# Altium schematic symbol library ECET231_ProjectThree_SCHLIB_Rev02.SCHLIB: 19 symbols
Pins are listed as number, name and electrical type; pins without a type are passive.

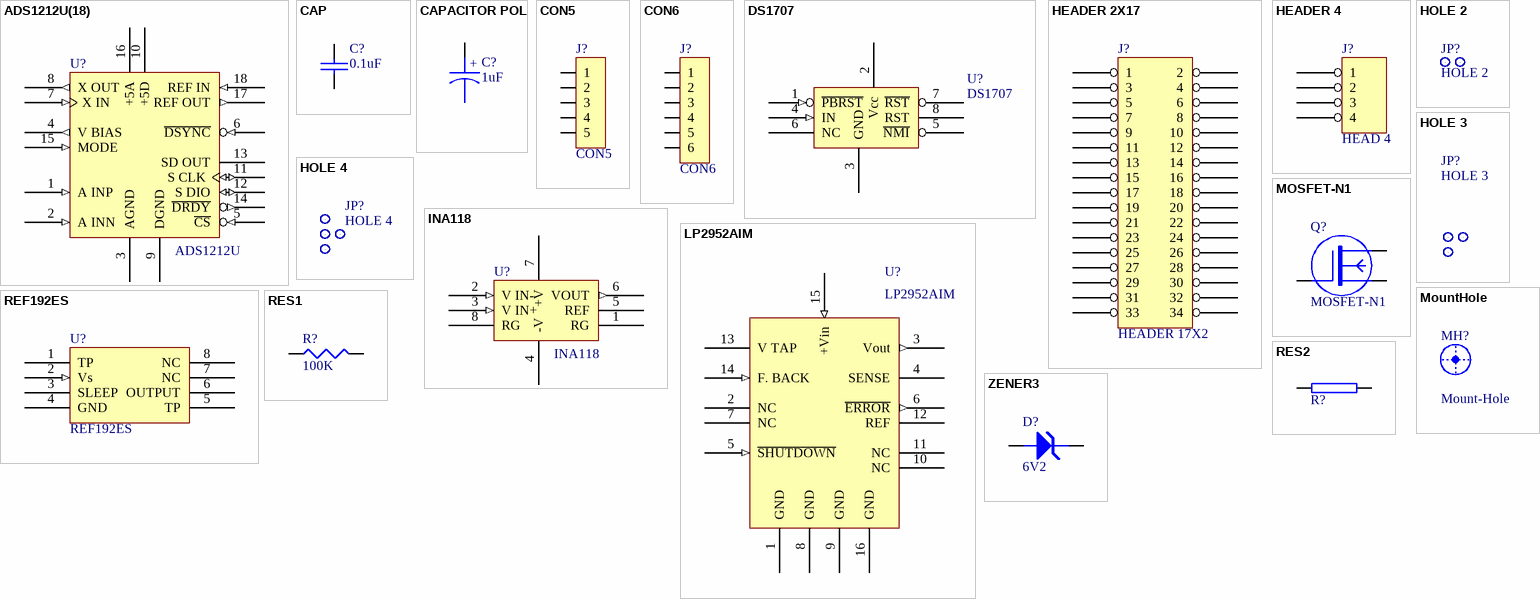
[diagram p0: symbols ADS1212U(18) to ZENER3]

## ADS1212U(18)
designator U?, comment ADS1212U
22-Bit Analog-to-Digital Converter
footprint SOIC18
pins: 1 A INP (in), 2 A INN (in), 3 AGND (power) hidden to AGND, 4 V BIAS (out), 5 ~{CS} (in), 6 ~{DSYNC} (in), 7 X IN (in), 8 X OUT (out), 9 DGND (power) hidden to DGND, 10 +5D (power) hidden to +5D, 11 S CLK (io), 12 S DIO (io), 13 SD OUT (hiz), 14 ~{DRDY} (out), 15 MODE (in), 16 +5A (power) hidden to +5A, 17 REF OUT (out), 18 REF IN (in)

## CAP
designator C?, comment 0.1uF
footprint 0805
pins: 1, 2

## CAPACITOR POL
designator C?, comment 1uF
Part Field 1: TANT
footprint 3528
pins: 1, 2
text: +

## CON5
designator J?
footprint FSFD4.5
pins: 1, 2, 3, 4, 5

## CON6
designator J?
footprint FSFD4.6
pins: 1, 2, 3, 4, 5, 6

## DS1707
designator U?
footprint SO-8
pins: 1 ~{PBRST} (in), 2 Vcc (power), 3 GND, 4 IN (in), 5 ~{NMI}, 6 NC, 7 ~{RST}, 8 RST

## HEADER 2X17
designator J?, comment HEADER 17X2
footprint HDR2X17
pins: 1, 2, 3, 4, 5, 6, 7, 8, 9, 10, 11, 12, 13, 14, 15, 16, 17, 18, 19, 20, 21, 22, 23, 24, 25, 26, 27, 28, 29, 30, 31, 32, 33, 34

## HEADER 4
designator J?, comment HEAD 4
footprint 70543-4A
pins: 1, 2, 3, 4

## HOLE 2
designator JP?
footprint RAD0.1
pins: 1, 2

## HOLE 3
designator JP?
footprint RAD0.1A
pins: 1, 2, 3

## HOLE 4
designator JP?
footprint RAD0.1B
pins: 1, 2, 3, 4

## INA118
designator U?
Precision, Low Power Instrumentation Amplifier
footprint SO-8
pins: 1 RG, 2 V IN- (in), 3 V IN+ (in), 4 -V (power) hidden to -V, 5 REF, 6 VOUT (out), 7 +V (power) hidden to +V, 8 RG

## LP2952AIM
designator U?
footprint SO-16
pins: 1 GND, 2 NC, 3 Vout (out), 4 SENSE, 5 ~{SHUTDOWN} (in), 6 ~{ERROR} (out), 7 NC, 8 GND, 9 GND, 10 NC, 11 NC, 12 REF, 13 V TAP, 14 F. BACK (in), 15 +Vin (in), 16 GND

## MOSFET-N1
designator Q?
footprint SOT-23
pins: 1, 2, 3

## MountHole
designator MH?, comment Mount-Hole
Mount hole; LatestRevisionDate: 17-Jul-2002; LatestRevisionNote: Re-released for DXP Platform.; Publisher: Altium Limited
footprint screw 4-40

## REF192ES
designator U?
footprint SO-8
pins: 1 TP, 2 Vs (in), 3 SLEEP, 4 GND, 5 TP, 6 OUTPUT, 7 NC, 8 NC

## RES1
designator R?, comment 100K
footprint 0805
pins: 1, 2

## RES2
designator R?, comment bridge R  (value not drawn)
footprint bridge resistor
pins: 1, 2

## ZENER3
designator D?, comment 6V2
footprint SOD-123
pins: A, K